# EAGLE library part CON_P06 (library akita)
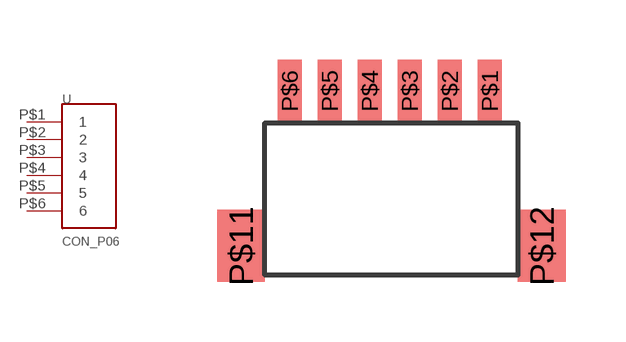
[diagram p90: symbol with the pads of JST_BM06B-SRSS-TB; footprint JST_BM06B-SRSS-TB]

Designator prefix -

## CON_P06  [JST_BM06B-SRSS-TB]
P$1  1
P$2  2
P$3  3
P$4  4
P$5  5
P$6  6

## Footprint JST_BM06B-SRSS-TB (pad centres in mm)
smd 0.6 x 1.55: P$1 2.46,2.04; P$2 1.46,2.04; P$3 0.46,2.04; P$4 -0.54,2.04; P$5 -1.54,2.04; P$6 -2.54,2.04
smd 1.2 x 1.8: P$11 -3.76,-1.835; P$12 3.76,-1.835